# Altium schematic symbol library SS34.SchLib: 2 symbols
Pins are listed as number, name and electrical type; pins without a type are passive.

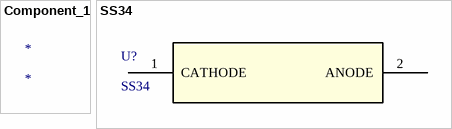
[diagram p0: symbols Component_1 to SS34]

## Component_1
designator *

## SS34
designator U?
Diode 40 V 3A Surface Mount DO-214AB (SMC); Manufacturer_Name: onsemi; Copyright: Copyright (C) 2025 Ultra Librarian. All rights reserved.; Manufacturer_Part_Number: SS34; RefDes: RefDes; Type: Type
footprint SMB_ONS
pins: 1 CATHODE, 2 ANODE